# Altium schematic symbol library IPC_WK2_PARTS_Juan_Chavez.SchLib: 30 symbols (part 2 of 2)
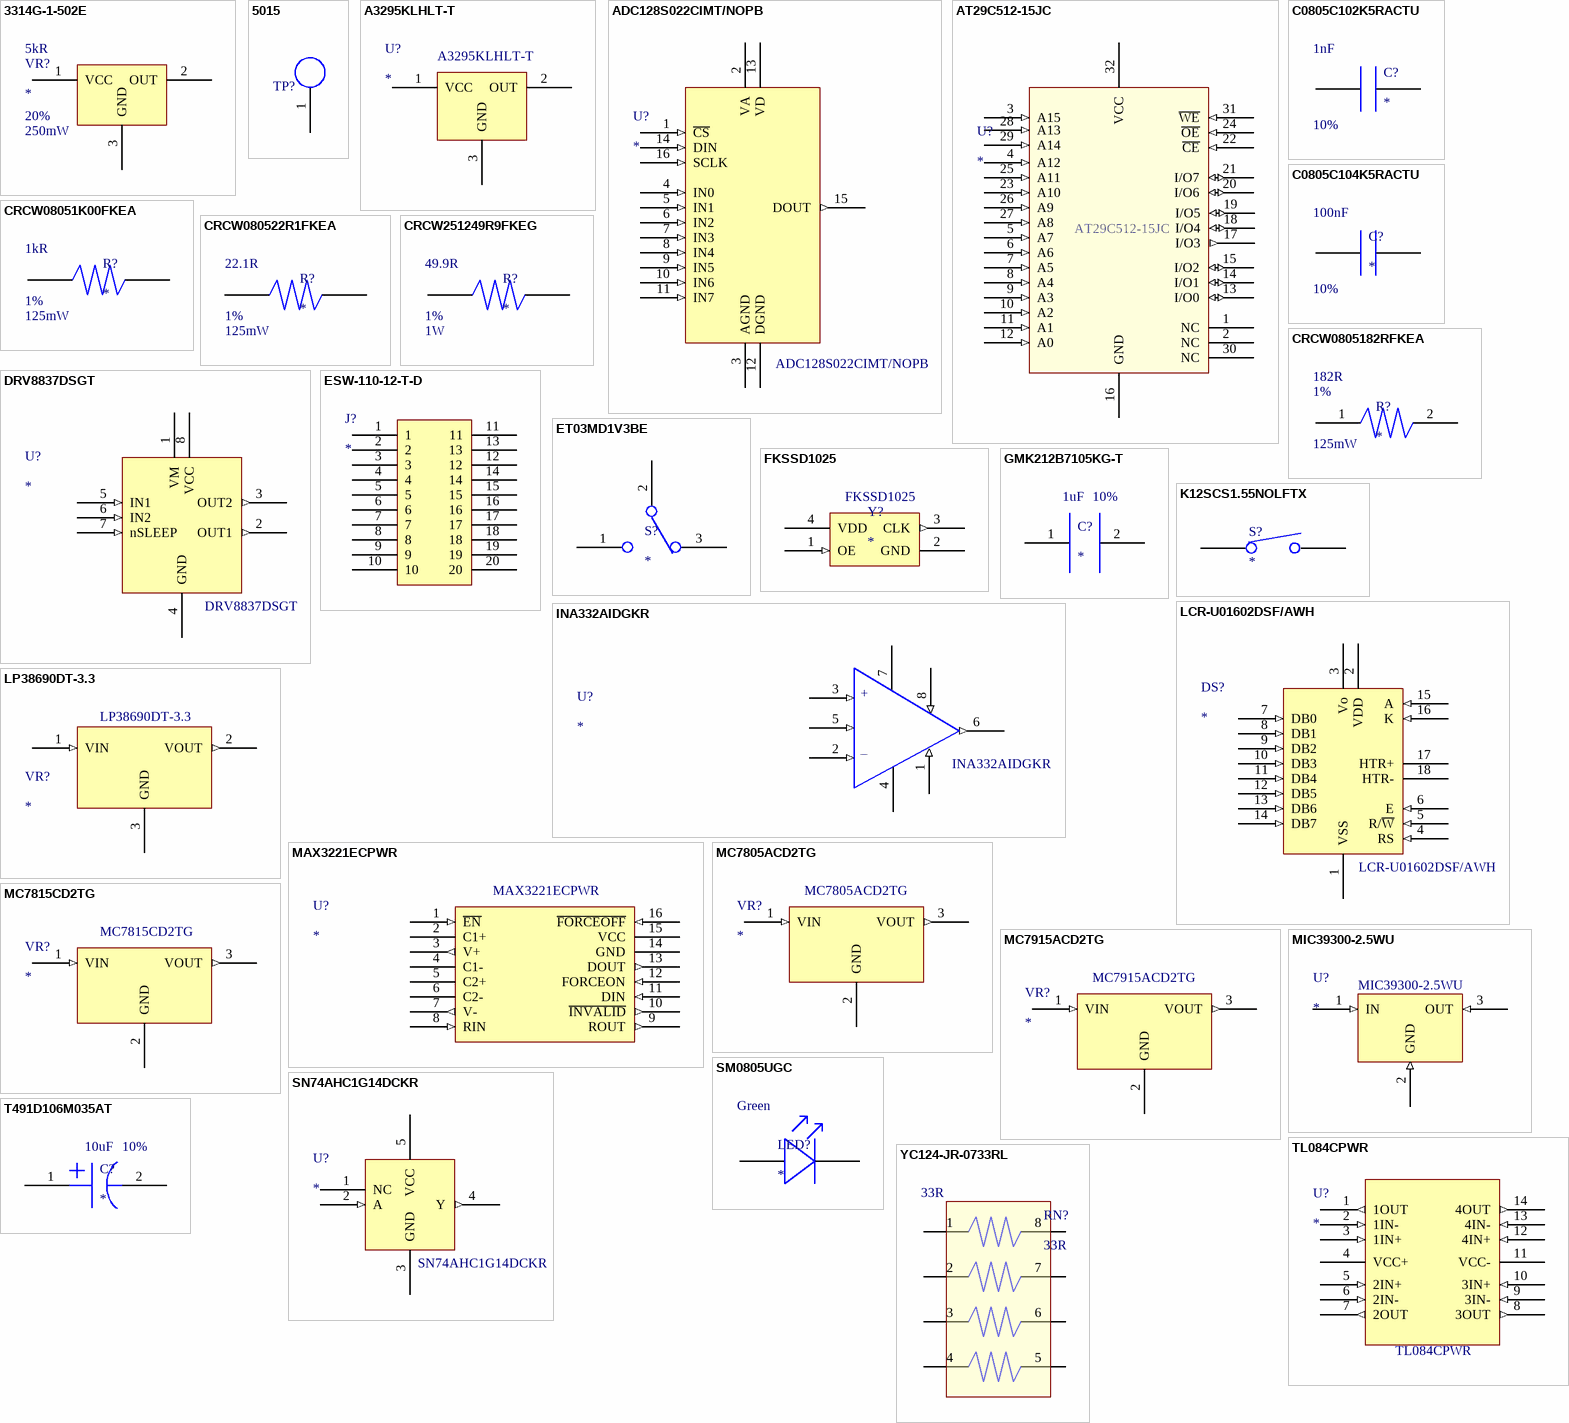
[diagram p1: symbols 3314G-1-502E to YC124-JR-0733RL]

## MIC39300-2.5WU
designator U?  Mfr. P/N: MIC39300-2.5WU
MIC39300 Series 2.5 V Fixed Output 3 A SMT Low Voltage LDO Regulator - TO-263-3; Mfr.: Microchip; Output Voltage: 2.5V; Output Current: 3A; Dropout Voltage: 385mV; Number of Regulators: 1; Max Supply Voltage: 16V; Polarity: Positive; Quiescent Current: 20mA; Accuracy: 1%; Supplier: Digi-Key; Supplier Part Number: 576-3375-5-ND; RoHS: Yes; Category: Voltage Regulators - Linear; Stock: 1; Pricing: 1=4.48, 25=3.74, 100=3.4 (USD); Mounting Technology: Surface Mount; Case/Package: TO-263; Pins: 3; Min Operating Temperature: -40°C; Max Operating Temperature: 125°C; Packaging: Rail/Tube; Min Input Voltage: 2.5V; Number of Outputs: 1; Output Type: Fixed; Series: -; Max Output current: 3A; Min Output Voltage: 2.5V; Nominal Output Voltage: 2.5V; Current Rating: 3A; Package Quantity: 50; Length: 10.67mm; Width: 9.17mm; Height: 4.6mm; Radiation Hardening: No; Lead Free: Lead Free; RoHS Compliant: Yes; Reach SVHC Compliant: No; ComponentLink1URL: https://datasheet.ciiva.com/7993/83965-7993376.pdf?src-supplier=Element14; ComponentLink1Description: https://datasheet.ciiva.com/7993/83965-7993376.pdf?src-supplier=Element14
footprint DPAK267P1524X460-4N (D2-PAK, 4-Pads, Body 7.68x8.69mm (max), IPC Medium Density)
pins: 1 IN (in), 2 GND (in), 3 OUT (in)

## SM0805UGC
designator LED?  Color: Green
LED Uni-Color Green 563nm 2-Pin Chip 0805(2012Metric) T/R; Mfr.: Bivar; Mfr. P/N: SM0805UGC; Lens Color: Colorless; Luminous Intensity: 10mcd; Viewing Angle: 130°; Forward Voltage: 2V; Forward Current: 20mA; Power Rating: 78mW; Lens Transparency: Clear; Lens Style: Rectangular; Dominant Wavelength: 565nm; Wavelength: 525nm; Supplier: Arrow Electronics; Supplier Part Number: SM0805UGC; RoHS: Yes; Category: LEDs; Stock: 2324; Pricing: 1=0.3042, 10=0.2713, 25=0.2686, 100=0.2365, 250=0.2341, 500=0.2318, 1000=0.2248 (USD); Mounting Technology: Surface Mount; Case/Package: 0805; Case Code (Imperial): 0805; Case Code (Metric): 2012; Min Operating Temperature: -30°C; Max Operating Temperature: 80°C; Package Quantity: 1; Illumination Color: Green; Packaging: Tape and Reel; Test Current: 20mA; Series: -; Length: 2mm; Width: 1.2mm; Height: 1.1mm; RoHS Compliant: Yes; Reach SVHC Compliant: No; Lead Free: Lead Free; ComponentLink1URL: https://datasheet.ciiva.com/22656/1760129-22656448.pdf?src-supplier=Element14; ComponentLink1Description: https://datasheet.ciiva.com/22656/1760129-22656448.pdf?src-supplier=Element14; ComponentLink2URL: https://datasheet.ciiva.com/12400/sm0805ugc-59534-12400859.pdf?src-supplier=Mouser; ComponentLink2Description: https://datasheet.ciiva.com/12400/sm0805ugc-59534-12400859.pdf?src-supplier=Mouser; ComponentLink3URL: https://datasheet.ciiva.com/48980/70536352-48980231.pdf?src-supplier=Allied+Electronics; ComponentLink3Description: https://datasheet.ciiva.com/48980/70536352-48980231.pdf?src-supplier=Allied+Electronics; ComponentLink4URL: https://datasheet.ciiva.com/2111/sm0805ugc-2111346.pdf?src-supplier=Digi-Key; ComponentLink4Description: https://datasheet.ciiva.com/2111/sm0805ugc-2111346.pdf?src-supplier=Digi-Key; ComponentLink5URL: https://datasheet.ciiva.com/2111/sm0805ugc-2111347.pdf?src-supplier=Digi-Key; ComponentLink5Description: https://datasheet.ciiva.com/2111/sm0805ugc-2111347.pdf?src-supplier=Digi-Key; ComponentLink6URL: https://datasheet.ciiva.com/2111/sm0805ugc-2111348.pdf?src-supplier=Digi-Key; ComponentLink6Description: https://datasheet.ciiva.com/2111/sm0805ugc-2111348.pdf?src-supplier=Digi-Key
footprint DIOC2012X11N (Chip Diode, 2-Leads, Body 1.95x1.15mm, IPC Medium Density)
pins: 1, 2

## SN74AHC1G14DCKR
designator U?  Mfr. P/N: SN74AHC1G14DCKR
Inverter IC 1 Channel Schmitt Trigger SC-70-5; Mfr.: Texas Instruments; Logic Function: Buffer,Inverter,Schmitt Trigger; Number of Elements: 1; Propagation Delay: 18.5ns; Min Supply Voltage: 2V; Max Supply Voltage: 5.5V; Quiescent Current: 1uA; High Level Output Current: -8mA; Low Level Output Current: 8mA; Turn-On Delay Time: 10.6ns; Schmitt Trigger Input: Yes; Supplier: Mouser; Supplier Part Number: 595-SN74AHC1G14DCKR; RoHS: Yes; Category: Logic Gates; Stock: 174785; Pricing: 1=0.32, 10=0.262, 50=0.262, 100=0.122, 1000=0.063, 10000=0.049 (USD); Mounting Technology: Surface Mount; Case/Package: SC; Pins: 5; Weight: 8.8E-05oz; Min Operating Temperature: -40°C; Max Operating Temperature: 125°C; Packaging: Tape and Reel; Package Quantity: 1; Number of Inputs: 1; Number of Circuits: 1; Number of Gates: 1; Number of Bits: 1; Series: 74AHC; Technology: CMOS; Input Type: SCHMITT TRIGGER; Max Output current: 8mA; Output Current: 8mA; Termination: SMD/SMT; Length: 2mm; Width: 1.25mm; Height: 0.9mm; Radiation Hardening: No; Lead Free: Lead Free; RoHS Compliant: Yes; Reach SVHC Compliant: No; ComponentLink1URL: https://datasheet.ciiva.com/1864/sn74ahc1g14-1864208.pdf?src-supplier=Digi-Key; ComponentLink1Description: https://datasheet.ciiva.com/1864/sn74ahc1g14-1864208.pdf?src-supplier=Digi-Key; ComponentLink2URL: https://datasheet.ciiva.com/4219/814sn74ahc1g14-4219693.pdf?src-supplier=Arrow+Electronics; ComponentLink2Description: https://datasheet.ciiva.com/4219/814sn74ahc1g14-4219693.pdf?src-supplier=Arrow+Electronics; ComponentLink3URL: https://datasheet.ciiva.com/15089/getdatasheetpartid-189999-15089350.pdf?src-supplier=Verical; ComponentLink3Description: https://datasheet.ciiva.com/15089/getdatasheetpartid-189999-15089350.pdf?src-supplier=Verical; ComponentLink4URL: https://datasheet.ciiva.com/7783/sn74ahc1g14-7783209.pdf?src-supplier=Element14; ComponentLink4Description: https://datasheet.ciiva.com/7783/sn74ahc1g14-7783209.pdf?src-supplier=Element14; ComponentLink5URL: https://datasheet.ciiva.com/7783/sn74ahc1g14-7783208.pdf?src-supplier=Element14; ComponentLink5Description: https://datasheet.ciiva.com/7783/sn74ahc1g14-7783208.pdf?src-supplier=Element14; ComponentLink6URL: https://datasheet.ciiva.com/46430/1834183-46430933.pdf?src-supplier=Element14; ComponentLink6Description: https://datasheet.ciiva.com/46430/1834183-46430933.pdf?src-supplier=Element14; ComponentLink7URL: https://datasheet.ciiva.com/1864/sn74ahc1g14-1864207.pdf?src-supplier=Digi-Key; ComponentLink7Description: https://datasheet.ciiva.com/1864/sn74ahc1g14-1864207.pdf?src-supplier=Digi-Key; ComponentLink8URL: https://datasheet.ciiva.com/1864/sn74ahc1g14-1864206.pdf?src-supplier=Digi-Key; ComponentLink8Description: https://datasheet.ciiva.com/1864/sn74ahc1g14-1864206.pdf?src-supplier=Digi-Key; ComponentLink9URL: https://datasheet.ciiva.com/14290/sn74ahc1g14-14290297.pdf?src-supplier=Avnet; ComponentLink9Description: https://datasheet.ciiva.com/14290/sn74ahc1g14-14290297.pdf?src-supplier=Avnet; ComponentLink10URL: https://datasheet.ciiva.com/14290/sn74ahc1g14-14290300.pdf?src-supplier=Avnet; ComponentLink10Description: https://datasheet.ciiva.com/14290/sn74ahc1g14-14290300.pdf?src-supplier=Avnet
footprint SOT65P210X110-5N (SOT23, 5-Leads, Body 2.00x2.10mm, Pitch 0.65mm, IPC Medium Density)
pins: 1 NC (hiz), 2 A (in), 3 GND (power), 4 Y (out), 5 VCC (power)

## T491D106M035AT
designator C?  value 10uF  Tolerance: 10%
Cap Tant Solid 10uF 35V D CASE 20% (7.3 X 4.3 X 2.8mm) SMD 7343-31 1 Ohm 125 C T/R; Mfr.: KEMET; Mfr. P/N: T491D106M035AT; Dielectric Material: Tantalum; ESR (Equivalent Series Resistance): 1R; Dissipation Factor: 6%; Leakage Current: 3.5uA; Polarity: Polar; Supplier: Mouser; Supplier Part Number: 80-T491D106M035; RoHS: Yes; Category: Tantalum Capacitors; Stock: 47772; Pricing: 1=1.03, 10=0.787, 50=0.787, 100=0.563, 500=0.435, 1000=0.374, 2500=0.35, 5000=0.332, 10000=0.315, 25000=0.304 (USD); Mounting Technology: Surface Mount,PCB; Case/Package: 7343-31; Pins: 2; Case Code (Metric): 7343; Case Code (Imperial): 2917; Min Operating Temperature: -55°C; Max Operating Temperature: 125°C; Packaging: Tape and Reel; Construction: Flat; Voltage Rating: 35V; Series: T491; Package Quantity: 500; Features: General Purpose; Voltage Rating (DC): 35V; Termination: SMD/SMT; Voltage: 35V; Length: 7.3mm; Width: 4.3mm; Height: 2.8mm; Depth: 4.3mm; Lead Pitch: 3.6mm; Radiation Hardening: No; RoHS Compliant: Yes; Lead Free: Lead Free; Reach SVHC Compliant: No; ComponentLink1URL: https://datasheet.ciiva.com/259/kem-t2005-t491-259906.pdf?src-supplier=Digi-Key; ComponentLink1Description: https://datasheet.ciiva.com/259/kem-t2005-t491-259906.pdf?src-supplier=Digi-Key; ComponentLink2URL: https://datasheet.ciiva.com/34302/1574196-34302537.pdf?src-supplier=Jameco; ComponentLink2Description: https://datasheet.ciiva.com/34302/1574196-34302537.pdf?src-supplier=Jameco; ComponentLink3URL: https://datasheet.ciiva.com/259/kem-t2005-t491-259907.pdf?src-supplier=Digi-Key; ComponentLink3Description: https://datasheet.ciiva.com/259/kem-t2005-t491-259907.pdf?src-supplier=Digi-Key; ComponentLink4URL: https://datasheet.ciiva.com/259/kem-t2005-t491-259908.pdf?src-supplier=Digi-Key; ComponentLink4Description: https://datasheet.ciiva.com/259/kem-t2005-t491-259908.pdf?src-supplier=Digi-Key; ComponentLink5URL: https://datasheet.ciiva.com/5933/1446014-5933400.pdf?src-supplier=Farnell; ComponentLink5Description: https://datasheet.ciiva.com/5933/1446014-5933400.pdf?src-supplier=Farnell; ComponentLink6URL: https://datasheet.ciiva.com/7758/1446014-7758965.pdf?src-supplier=Element14; ComponentLink6Description: https://datasheet.ciiva.com/7758/1446014-7758965.pdf?src-supplier=Element14; ComponentLink7URL: https://datasheet.ciiva.com/7758/1446014-7758966.pdf?src-supplier=Element14; ComponentLink7Description: https://datasheet.ciiva.com/7758/1446014-7758966.pdf?src-supplier=Element14; ComponentLink8URL: https://datasheet.ciiva.com/22697/1854511-22697671.pdf?src-supplier=Element14; ComponentLink8Description: https://datasheet.ciiva.com/22697/1854511-22697671.pdf?src-supplier=Element14; ComponentLink9URL: https://datasheet.ciiva.com/14604/70095774-14604154.pdf?src-supplier=Allied+Electronics; ComponentLink9Description: https://datasheet.ciiva.com/14604/70095774-14604154.pdf?src-supplier=Allied+Electronics
footprint CAPCP7343X31N (Chip Capacitor, 2-Leads, Body 7.30x4.30mm, IPC Medium Density)
pins: 1, 2

## TL084CPWR
designator U?  Mfr. P/N: TL084CPWR
J-FET Amplifier 4 Circuit  14-TSSOP; Mfr.: Texas Instruments; Number of Channels: 4; Operating Supply Voltage: 18V; Supply Current: 11.2mA; Voltage Gain: 106.02dB; Min Dual Supply Voltage: 3.5V; Bandwidth: 3MHz; Common Mode Rejection Ratio: 70dB; Slew Rate: 13V/µs; Max I/O Voltage: 15mV; Input Bias Current: 400pA; Operating Supply Current: 1.4mA; Max Supply Voltage: 36V; Min Supply Voltage: 7V; Quiescent Current: 2.8A; Supplier: Mouser; RoHS: Yes; Category: Amplifiers - Op Amps, Buffer, Instrumentation; Stock: 5062; Pricing: 1=0.51, 10=0.438, 50=0.438, 100=0.304, 500=0.257, 1000=0.199, 2000=0.181, 4000=0.169, 8000=0.159, 10000=0.159, 24000=0.154 (USD); Case/Package: TSSOP; Pins: 14; Min Operating Temperature: -40°C; Max Operating Temperature: 125°C; Packaging: Tape and Reel; Package Quantity: 1; Max Dual Supply Voltage: 18V; Nominal Gain Bandwidth Product: 3MHz; Number of Circuits: 4; Gain Bandwidth Product: 3MHz; Input Offset Voltage (Vos): 15mV; Technology: BIFET; Series: -; Unity Gain Bandwidth Product: 3MHz; Number of Amplifiers: 4; Number of Elements: 4; Radiation Hardening: No; Lead Free: Lead Free; RoHS Compliant: Yes; Reach SVHC Compliant: No; ComponentLink1URL: https://datasheet.ciiva.com/34301/1064719-34301936.pdf?src-supplier=Jameco; ComponentLink1Description: https://datasheet.ciiva.com/34301/1064719-34301936.pdf?src-supplier=Jameco; ComponentLink2URL: https://datasheet.ciiva.com/1795/tl081a-1795644.pdf?src-supplier=Digi-Key; ComponentLink2Description: https://datasheet.ciiva.com/1795/tl081a-1795644.pdf?src-supplier=Digi-Key; ComponentLink3URL: https://datasheet.ciiva.com/1795/tl081a-1795643.pdf?src-supplier=Digi-Key; ComponentLink3Description: https://datasheet.ciiva.com/1795/tl081a-1795643.pdf?src-supplier=Digi-Key; ComponentLink4URL: https://datasheet.ciiva.com/1795/tl081a-1795645.pdf?src-supplier=Digi-Key; ComponentLink4Description: https://datasheet.ciiva.com/1795/tl081a-1795645.pdf?src-supplier=Digi-Key; ComponentLink5URL: https://datasheet.ciiva.com/14459/tl082-14459749.pdf?src-supplier=Avnet; ComponentLink5Description: https://datasheet.ciiva.com/14459/tl082-14459749.pdf?src-supplier=Avnet; ComponentLink6URL: https://datasheet.ciiva.com/48707/001072249-da-01-en-ic-opamp-jfet-3mh-tl084cpwr-tssop-14-tid-48707867.pdf?src-supplier=Conrad; ComponentLink6Description: https://datasheet.ciiva.com/48707/001072249-da-01-en-ic-opamp-jfet-3mh-tl084cpwr-tssop-14-tid-48707867.pdf?src-supplier=Conrad; Supplier Part Number: 595-TL084CPWR
footprint SOP127P780X200-14N (SOP, 14-Leads, Body 10.20x5.30mm, Pitch 1.27mm, IPC Medium Density)
pins: 1 1OUT (out), 2 1IN- (in), 3 1IN+ (in), 4 VCC+ (power), 5 2IN+ (in), 6 2IN- (in), 7 2OUT (out), 8 3OUT (out), 9 3IN- (in), 10 3IN+ (in), 11 VCC- (power), 12 4IN+ (in), 13 4IN- (in), 14 4OUT (out)

## YC124-JR-0733RL
designator RN?, comment 33R
Res Thick Film Array 33 Ohm 5% +/-200ppm/C ISOL Epoxy 8-Pin 0804(4 X 0402) Convex SMD T/R; Mfr.: Yageo; Mfr. P/N: YC124-JR-0733RL; Number of Elements: 4; Voltage Rating: 50V; Circuit Type: Isolated; Power Per Element: 62.5mW; Temperature Coefficient: 200ppm/°C; Number of Contacts: 8; Supplier: Future Electronics; Supplier Part Number: 8978215; RoHS: Yes; Category: Resistor Arrays; Stock: 2750000; Pricing: 10000=0.0056, 30000=0.0053, 100000=0.0051, 200000=0.0049, 400000=0.0047 (USD); Mounting Technology: Surface Mount; Case/Package: 0124; Pins: 8; Case Code (Metric): 2010; Case Code (Imperial): 0804; Min Operating Temperature: -55°C; Max Operating Temperature: 155°C; Package Quantity: 10000; Packaging: Tape and Reel; Tolerance: 5%; Number of Resistors: 4; Termination: SMD/SMT; Power Dissipation: 62.5mW; Working Voltage: 50V; Number of Circuits: 4; Series: YC124; Resistance Tolerance: 5%; Lead Pitch: 0.5mm; Radiation Hardening: No; Lead Free: Lead Free; RoHS Compliant: Yes; Reach SVHC Compliant: Unknown; ComponentLink1URL: https://datasheet.ciiva.com/13141/pyu-yc-tc124-51-rohs-l-3-9228-13141588.pdf?src-supplier=Mouser; ComponentLink1Description: https://datasheet.ciiva.com/13141/pyu-yc-tc124-51-rohs-l-3-9228-13141588.pdf?src-supplier=Mouser; ComponentLink2URL: https://datasheet.ciiva.com/8017/1508227-8017870.pdf?src-supplier=Element14; ComponentLink2Description: https://datasheet.ciiva.com/8017/1508227-8017870.pdf?src-supplier=Element14; ComponentLink3URL: https://datasheet.ciiva.com/8017/1508227-8017868.pdf?src-supplier=Element14; ComponentLink3Description: https://datasheet.ciiva.com/8017/1508227-8017868.pdf?src-supplier=Element14; ComponentLink4URL: https://datasheet.ciiva.com/16990/pyu-yc-tc124-51-rohs-l-3-16990823.pdf?src-supplier=Future+Electronics; ComponentLink4Description: https://datasheet.ciiva.com/16990/pyu-yc-tc124-51-rohs-l-3-16990823.pdf?src-supplier=Future+Electronics; ComponentLink5URL: https://datasheet.ciiva.com/2688/pyu-yc-tc124-51-rohs-l-3-2688684.pdf?src-supplier=Digi-Key; ComponentLink5Description: https://datasheet.ciiva.com/2688/pyu-yc-tc124-51-rohs-l-3-2688684.pdf?src-supplier=Digi-Key; ComponentLink6URL: https://datasheet.ciiva.com/2688/pyu-yc-tc124-51-rohs-l-3-2688685.pdf?src-supplier=Digi-Key; ComponentLink6Description: https://datasheet.ciiva.com/2688/pyu-yc-tc124-51-rohs-l-3-2688685.pdf?src-supplier=Digi-Key; ComponentLink7URL: https://datasheet.ciiva.com/2688/pyu-yc-tc124-51-rohs-l-3-2688683.pdf?src-supplier=Digi-Key; ComponentLink7Description: https://datasheet.ciiva.com/2688/pyu-yc-tc124-51-rohs-l-3-2688683.pdf?src-supplier=Digi-Key; ComponentLink8URL: https://datasheet.ciiva.com/8320/pyu-yc-tc124-51-rohs-l-2-8320219.pdf?src-supplier=Avnet; ComponentLink8Description: https://datasheet.ciiva.com/8320/pyu-yc-tc124-51-rohs-l-2-8320219.pdf?src-supplier=Avnet; Value: 33R
footprint CAF-55P200X100-8N (Chip Array, Flat, 8-Leads, Pitch 0.55mm,  Body 2.00x1.00mm,  IPC Medium Density)
pins: 1, 2, 3  3, 4, 5, 6, 7  7, 8